# EAGLE library part IF_LPC11U35FHI33/501 (library mbed-HDK-MF-NXP)
CMSIS-DAP Interface : 32-bit LPC11U00 ARM Cortex M3 RISC 64KB Flash 2.5V/3.3V 33-Pin HVQFN EP
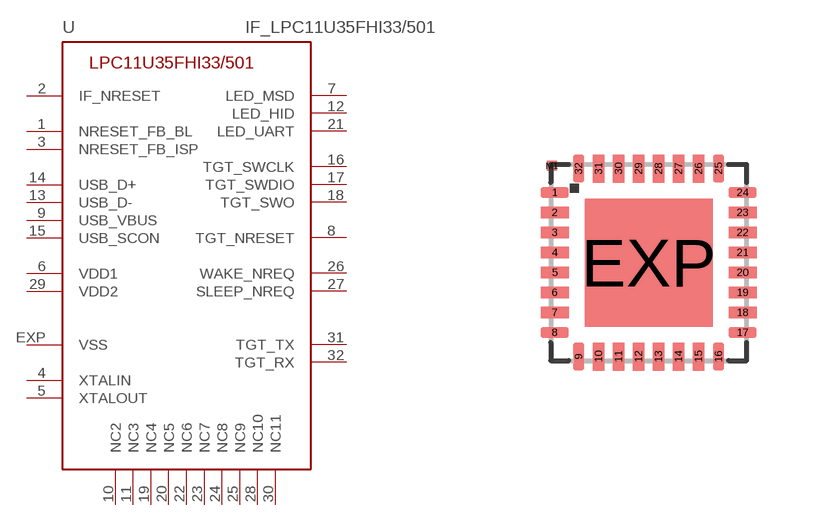
[diagram p11: symbol with the pads of HVQFN33; footprint HVQFN33]

Designator prefix U

## IF_LPC11U35FHI33/501 (MF: NXP; MFN: LPC11U35FHI33/501; OC-DIGIKEY: 568-9586-ND; OC-MOUSER: 771-LPC11U35FHI33501; OC-NEWARK: 2115658)  [HVQFN33]
1  NRESET_FB_BL
2  IF_NRESET
3  NRESET_FB_ISP
4  XTALIN
5  XTALOUT
6  VDD1
7  LED_MSD
8  TGT_NRESET
9  USB_VBUS
10  NC2
11  NC3
12  LED_HID
13  USB_D-
14  USB_D+
15  USB_SCON
16  TGT_SWCLK
17  TGT_SWDIO
18  TGT_SWO
19  NC4
20  NC5
21  LED_UART
22  NC6
23  NC7
24  NC8
25  NC9
26  WAKE_NREQ
27  SLEEP_NREQ
28  NC10
29  VDD2
30  NC11
31  TGT_TX
32  TGT_RX
EXP  VSS

## Footprint HVQFN33 (pad centres in mm)
HVQFN32 (SOT617-3) 5 x 5 x .85 mm, Pitch 0.5mm Source: http://www.semiconductors.philips.com/acrobat_download/datasheets/TDA9885_TDA9886_2.pdf
smd 0.7 x 0.28: 1 -2.35,1.75; 2 -2.35,1.25; 3 -2.35,0.75; 4 -2.35,0.25; 5 -2.35,-0.25; 6 -2.35,-0.75; 7 -2.35,-1.25; 8 -2.35,-1.75; 17 2.35,-1.75; 18 2.35,-1.25; 19 2.35,-0.75; 20 2.35,-0.25; 21 2.35,0.25; 22 2.35,0.75; 23 2.35,1.25; 24 2.35,1.75
smd 0.28 x 0.7: 9 -1.75,-2.35; 10 -1.25,-2.35; 11 -0.75,-2.35; 12 -0.25,-2.35; 13 0.25,-2.35; 14 0.75,-2.35; 15 1.25,-2.35; 16 1.75,-2.35; 25 1.75,2.35; 26 1.25,2.35; 27 0.75,2.35; 28 0.25,2.35; 29 -0.25,2.35; 30 -0.75,2.35; 31 -1.25,2.35; 32 -1.75,2.35
smd 3.2 x 3.2: EXP 0,0
smd 0.25 x 0.25: M1 -2.415,2.415